# Altium schematic symbol library sd2snes.SchLib: 23 symbols
Pins are listed as number, name and electrical type; pins without a type are passive.

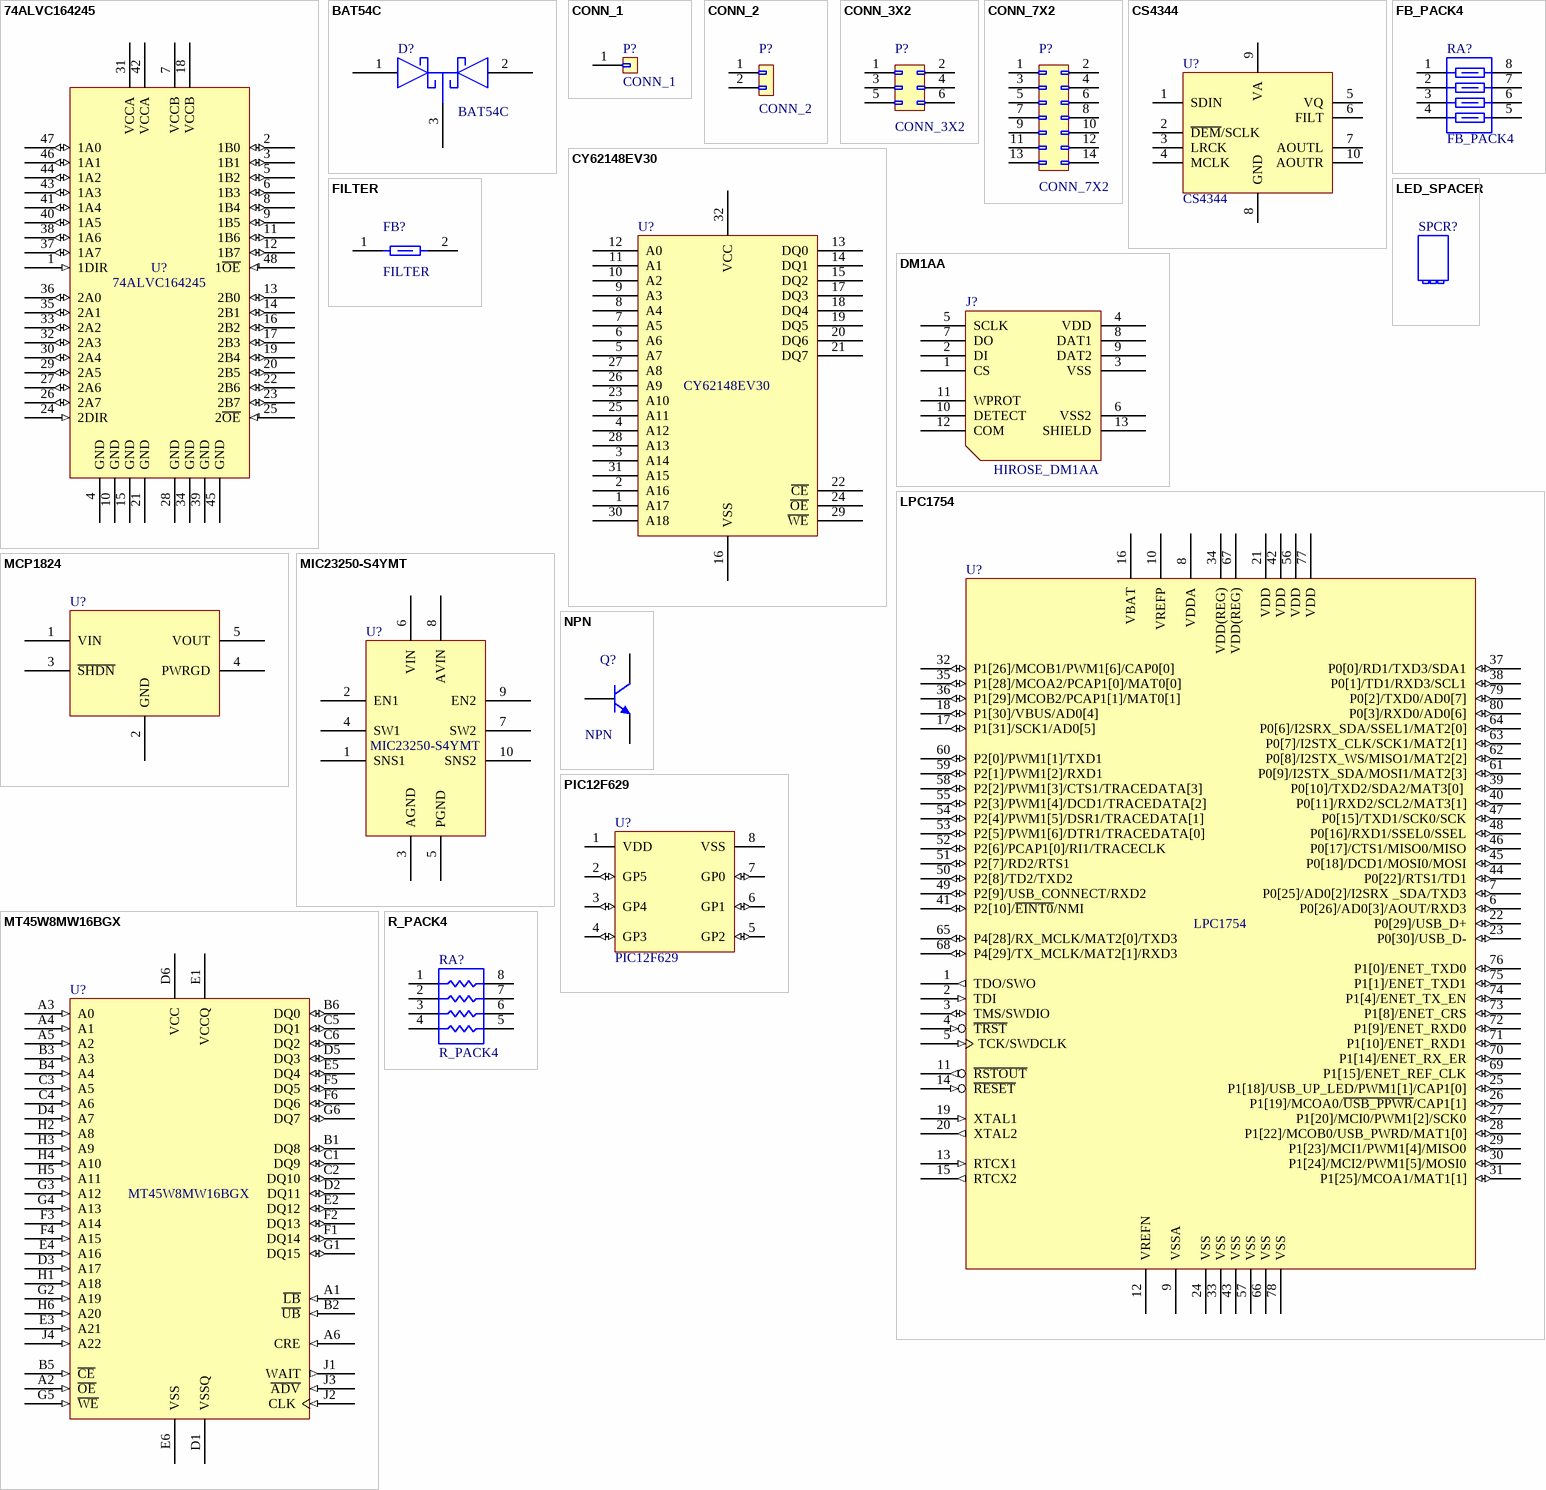
[diagram p0: symbols 74ALVC164245 to R_PACK4]

## 74ALVC164245
designator U?
footprint TSSOP50P810X120-48N (TSSOP, 48-Leads, Body 12.50x6.10mm, Pitch 0.50mm, IPC Medium Density)
pins: 1 1DIR (in), 2 1B0 (io), 3 1B1 (io), 4 GND (power), 5 1B2 (io), 6 1B3 (io), 7 VCCB (power), 8 1B4 (io), 9 1B5 (io), 10 GND (power), 11 1B6 (io), 12 1B7 (io), 13 2B0 (io), 14 2B1 (io), 15 GND (power), 16 2B2 (io), 17 2B3 (io), 18 VCCB (power), 19 2B4 (io), 20 2B5 (io), 21 GND (power), 22 2B6 (io), 23 2B7 (io), 24 2DIR (in), 25 2~{OE} (in), 26 2A7 (io), 27 2A6 (io), 28 GND (power), 29 2A5 (io), 30 2A4 (io), 31 VCCA (power), 32 2A3 (io), 33 2A2 (io), 34 GND (power), 35 2A1 (io), 36 2A0 (io), 37 1A7 (io), 38 1A6 (io), 39 GND (power), 40 1A5 (io), 41 1A4 (io), 42 VCCA (power), 43 1A3 (io), 44 1A2 (io), 45 GND (power), 46 1A1 (io), 47 1A0 (io), 48 1~{OE} (in)

## BAT54C
designator D?
pins: 1, 2, 3

## CONN_1
designator P?
pins: 1

## CONN_2
designator P?
pins: 1, 2

## CONN_3X2
designator P?
pins: 1, 2, 3, 4, 5, 6

## CONN_7X2
designator P?
pins: 1, 2, 3, 4, 5, 6, 7, 8, 9, 10, 11, 12, 13, 14

## CS4344
designator U?
pins: 1 SDIN, 2 ~{DEM}/SCLK, 3 LRCK, 4 MCLK, 5 VQ, 6 FILT, 7 AOUTL, 8 GND, 9 VA, 10 AOUTR

## CY62148EV30
designator U?
pins: 1 A17, 2 A16, 3 A14, 4 A12, 5 A7, 6 A6, 7 A5, 8 A4, 9 A3, 10 A2, 11 A1, 12 A0, 13 DQ0, 14 DQ1, 15 DQ2, 16 VSS, 17 DQ3, 18 DQ4, 19 DQ5, 20 DQ6, 21 DQ7, 22 ~{CE}, 23 A10, 24 ~{OE}, 25 A11, 26 A9, 27 A8, 28 A13, 29 ~{WE}, 30 A18, 31 A15, 32 VCC

## DM1AA
designator J?, comment HIROSE_DM1AA
pins: 1 CS, 2 DI, 3 VSS, 4 VDD, 5 SCLK, 6 VSS2, 7 DO, 8 DAT1, 9 DAT2, 10 DETECT, 11 WPROT, 12 COM, 13 SHIELD

## FB_PACK4
designator RA?
Four Ferrite Bead Array
footprint CAF-80P319X159-8N (Chip Array, Flat, 8-Leads, Pitch 0.80mm,  Body 3.20x1.60mm,  IPC Medium Density)
pins: 1, 2, 3, 4, 5, 6, 7, 8

## FILTER
designator FB?
footprint SM0805
pins: 1, 2

## LED_SPACER
designator SPCR?  (mechanical)
LED Spacer

## LPC1754
designator U?
pins: 1 TDO/SWO (out), 2 TDI (in), 3 TMS/SWDIO (io), 4 ~{TRST} (in), 5 TCK/SWDCLK (in), 6 P0[26]/AD0[3]/AOUT/RXD3 (io), 7 P0[25]/AD0[2]/I2SRX _SDA/TXD3 (io), 8 VDDA (power), 9 VSSA (power), 10 VREFP (power), 11 ~{RSTOUT} (out), 12 VREFN (power), 13 RTCX1 (in), 14 ~{RESET} (in), 15 RTCX2 (out), 16 VBAT (power), 17 P1[31]/SCK1/AD0[5] (io), 18 P1[30]/VBUS/AD0[4] (io), 19 XTAL1 (in), 20 XTAL2 (out), 21 VDD (power), 22 P0[29]/USB_D+ (io), 23 P0[30]/USB_D- (io), 24 VSS (power), 25 P1[18]/USB_UP_LED/PWM1[1]/CAP1[0] (io), 26 P1[19]/MCOA0/~{USB_PPWR}/CAP1[1] (io), 27 P1[20]/MCI0/PWM1[2]/SCK0 (io), 28 P1[22]/MCOB0/USB_PWRD/MAT1[0] (io), 29 P1[23]/MCI1/PWM1[4]/MISO0 (io), 30 P1[24]/MCI2/PWM1[5]/MOSI0 (io), 31 P1[25]/MCOA1/MAT1[1] (io), 32 P1[26]/MCOB1/PWM1[6]/CAP0[0] (io), 33 VSS (power), 34 VDD(REG) (power), 35 P1[28]/MCOA2/PCAP1[0]/MAT0[0] (io), 36 P1[29]/MCOB2/PCAP1[1]/MAT0[1] (io), 37 P0[0]/RD1/TXD3/SDA1 (io), 38 P0[1]/TD1/RXD3/SCL1 (io), 39 P0[10]/TXD2/SDA2/MAT3[0]  (io), 40 P0[11]/RXD2/SCL2/MAT3[1] (io), 41 P2[10]/~{EINT0}/NMI (io), 42 VDD (power), 43 VSS (power), 44 P0[22]/RTS1/TD1 (io), 45 P0[18]/DCD1/MOSI0/MOSI (io), 46 P0[17]/CTS1/MISO0/MISO (io), 47 P0[15]/TXD1/SCK0/SCK (io), 48 P0[16]/RXD1/SSEL0/SSEL (io), 49 P2[9]/USB_CONNECT/RXD2 (io), 50 P2[8]/TD2/TXD2 (io), 51 P2[7]/RD2/RTS1 (io), 52 P2[6]/PCAP1[0]/RI1/TRACECLK (io), 53 P2[5]/PWM1[6]/DTR1/TRACEDATA[0] (io), 54 P2[4]/PWM1[5]/DSR1/TRACEDATA[1] (io), 55 P2[3]/PWM1[4]/DCD1/TRACEDATA[2] (io), 56 VDD (power), 57 VSS (power), 58 P2[2]/PWM1[3]/CTS1/TRACEDATA[3] (io), 59 P2[1]/PWM1[2]/RXD1 (io), 60 P2[0]/PWM1[1]/TXD1 (io), 61 P0[9]/I2STX_SDA/MOSI1/MAT2[3] (io), 62 P0[8]/I2STX_WS/MISO1/MAT2[2] (io), 63 P0[7]/I2STX_CLK/SCK1/MAT2[1] (io), 64 P0[6]/I2SRX_SDA/SSEL1/MAT2[0] (io), 65 P4[28]/RX_MCLK/MAT2[0]/TXD3 (io), 66 VSS (power), 67 VDD(REG) (power), 68 P4[29]/TX_MCLK/MAT2[1]/RXD3 (io), 69 P1[15]/ENET_REF_CLK (io), 70 P1[14]/ENET_RX_ER (io), 71 P1[10]/ENET_RXD1 (io), 72 P1[9]/ENET_RXD0 (io), 73 P1[8]/ENET_CRS (io), 74 P1[4]/ENET_TX_EN (io), 75 P1[1]/ENET_TXD1 (io), 76 P1[0]/ENET_TXD0 (io), 77 VDD (power), 78 VSS (power), 79 P0[2]/TXD0/AD0[7] (io), 80 P0[3]/RXD0/AD0[6] (io)

## MCP1824
designator U?  (value not drawn)
pins: 1 VIN, 2 GND, 3 ~{SHDN}, 4 PWRGD, 5 VOUT

## MIC23250-S4YMT
designator U?
pins: 1 SNS1, 2 EN1, 3 AGND, 4 SW1, 5 PGND, 6 VIN, 7 SW2, 8 AVIN, 9 EN2, 10 SNS2

## MT45W8MW16BGX
designator U?
pins: A1 ~{LB} (in), A2 ~{OE} (in), A3 A0 (in), A4 A1 (in), A5 A2 (in), A6 CRE (in), B1 DQ8 (io), B2 ~{UB} (in), B3 A3 (in), B4 A4 (in), B5 ~{CE} (in), B6 DQ0 (io), C1 DQ9 (io), C2 DQ10 (io), C3 A5 (in), C4 A6 (in), C5 DQ1 (io), C6 DQ2 (io), D1 VSSQ (power), D2 DQ11 (io), D3 A17 (in), D4 A7 (in), D5 DQ3 (io), D6 VCC (power), E1 VCCQ (power), E2 DQ12 (io), E3 A21 (in), E4 A16 (in), E5 DQ4 (io), E6 VSS (power), F1 DQ14 (io), F2 DQ13 (io), F3 A14 (in), F4 A15 (in), F5 DQ5 (io), F6 DQ6 (io), G1 DQ15 (io), G2 A19 (in), G3 A12 (in), G4 A13 (in), G5 ~{WE} (in), G6 DQ7 (io), H1 A18 (in), H2 A8 (in), H3 A9 (in), H4 A10 (in), H5 A11 (in), H6 A20 (in), J1 WAIT (out), J2 CLK (in), J3 ~{ADV} (in), J4 A22 (in)

## NPN
designator Q?
NPN Transistor
footprint SOT95P237X111-3N (SOT23, 3-Leads, Body 2.92x2.37mm, Pitch 0.95mm, IPC Medium Density)
pins: 1 B, 2 E, 3 C

## PIC12F629
designator U?
pins: 1 VDD (power), 2 GP5 (io), 3 GP4 (io), 4 GP3 (io), 5 GP2 (io), 6 GP1 (io), 7 GP0 (io), 8 VSS (power)

## R_PACK4
designator RA?
Four Resistor Array
footprint CAC-80P319X159-8N (Chip Array, ConvexS, 8-Leads, Pitch 0.80mm,  Body 3.20x1.60mm,  IPC Medium Density)
pins: 1, 2, 3, 4, 5, 6, 7, 8

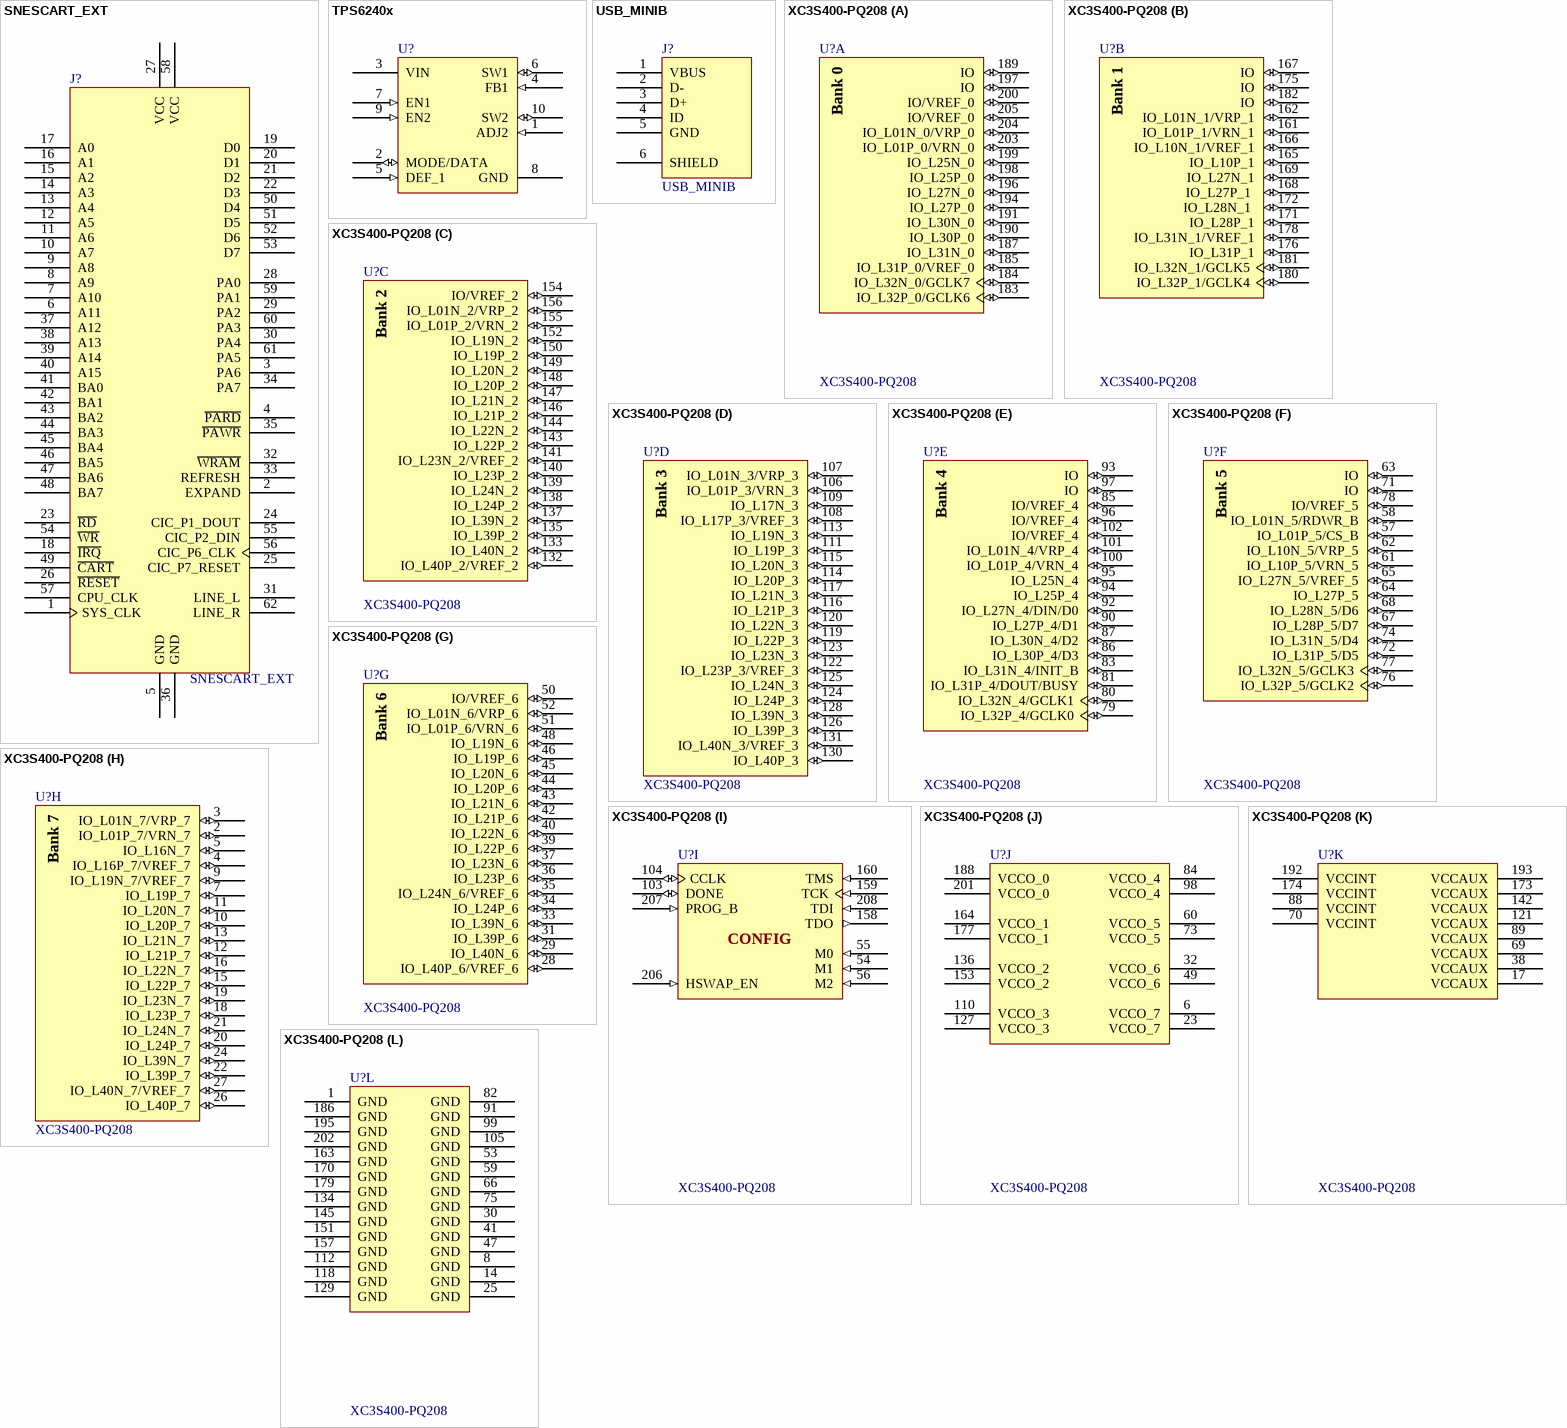
[diagram p1: symbols SNESCART_EXT to XC3S400-PQ208]

## SNESCART_EXT
designator J?
footprint SNESCART_EDGE_CONN (SNES Cartridge Edge Connector)
pins: 1 SYS_CLK, 2 EXPAND, 3 PA6, 4 ~{PARD}, 5 GND, 6 A11, 7 A10, 8 A9, 9 A8, 10 A7, 11 A6, 12 A5, 13 A4, 14 A3, 15 A2, 16 A1, 17 A0, 18 ~{IRQ}, 19 D0, 20 D1, 21 D2, 22 D3, 23 ~{RD}, 24 CIC_P1_DOUT, 25 CIC_P7_RESET, 26 ~{RESET}, 27 VCC, 28 PA0, 29 PA2, 30 PA4, 31 LINE_L, 32 ~{WRAM}, 33 REFRESH, 34 PA7, 35 ~{PAWR}, 36 GND, 37 A12, 38 A13, 39 A14, 40 A15, 41 BA0, 42 BA1, 43 BA2, 44 BA3, 45 BA4, 46 BA5, 47 BA6, 48 BA7, 49 ~{CART}, 50 D4, 51 D5, 52 D6, 53 D7, 54 ~{WR}, 55 CIC_P2_DIN, 56 CIC_P6_CLK, 57 CPU_CLK, 58 VCC, 59 PA1, 60 PA3, 61 PA5, 62 LINE_R

## TPS6240x
designator U?  (value not drawn)
TPS6240x, 2.25-MHz 400-mA and 600-mA Dual Step-Down Converter
pins: 1 ADJ2 (in), 2 MODE/DATA (io), 3 VIN (power), 4 FB1 (in), 5 DEF_1 (in), 6 SW1 (io), 7 EN1 (in), 8 GND (power), 9 EN2 (in), 10 SW2 (io)

## USB_MINIB
designator J?
pins: 1 VBUS, 2 D-, 3 D+, 4 ID, 5 GND, 6 SHIELD

## XC3S400-PQ208
designator U?
part A pins: 183 IO_L32P_0/GCLK6 (io), 184 IO_L32N_0/GCLK7 (io), 185 IO_L31P_0/VREF_0 (io), 187 IO_L31N_0 (io), 189 IO (io), 190 IO_L30P_0 (io), 191 IO_L30N_0 (io), 194 IO_L27P_0 (io), 196 IO_L27N_0 (io), 197 IO (io), 198 IO_L25P_0 (io), 199 IO_L25N_0 (io), 200 IO/VREF_0 (io), 203 IO_L01P_0/VRN_0 (io), 204 IO_L01N_0/VRP_0 (io), 205 IO/VREF_0 (io)
part B pins: 161 IO_L01P_1/VRN_1 (io), 162 IO_L01N_1/VRP_1 (io), 165 IO_L10P_1 (io), 166 IO_L10N_1/VREF_1 (io), 167 IO (io), 168 IO_L27P_1  (io), 169 IO_L27N_1 (io), 171 IO_L28P_1 (io), 172 IO_L28N_1  (io), 175 IO (io), 176 IO_L31P_1 (io), 178 IO_L31N_1/VREF_1 (io), 180 IO_L32P_1/GCLK4 (io), 181 IO_L32N_1/GCLK5 (io), 182 IO (io)
part C pins: 132 IO_L40P_2/VREF_2 (io), 133 IO_L40N_2 (io), 135 IO_L39P_2 (io), 137 IO_L39N_2 (io), 138 IO_L24P_2 (io), 139 IO_L24N_2 (io), 140 IO_L23P_2 (io), 141 IO_L23N_2/VREF_2 (io), 143 IO_L22P_2 (io), 144 IO_L22N_2 (io), 146 IO_L21P_2 (io), 147 IO_L21N_2 (io), 148 IO_L20P_2 (io), 149 IO_L20N_2 (io), 150 IO_L19P_2 (io), 152 IO_L19N_2 (io), 154 IO/VREF_2 (io), 155 IO_L01P_2/VRN_2 (io), 156 IO_L01N_2/VRP_2 (io)
part D pins: 106 IO_L01P_3/VRN_3 (io), 107 IO_L01N_3/VRP_3 (io), 108 IO_L17P_3/VREF_3 (io), 109 IO_L17N_3 (io), 111 IO_L19P_3 (io), 113 IO_L19N_3 (io), 114 IO_L20P_3 (io), 115 IO_L20N_3 (io), 116 IO_L21P_3 (io), 117 IO_L21N_3 (io), 119 IO_L22P_3 (io), 120 IO_L22N_3 (io), 122 IO_L23P_3/VREF_3 (io), 123 IO_L23N_3 (io), 124 IO_L24P_3 (io), 125 IO_L24N_3 (io), 126 IO_L39P_3 (io), 128 IO_L39N_3 (io), 130 IO_L40P_3 (io), 131 IO_L40N_3/VREF_3 (io)
part E pins: 79 IO_L32P_4/GCLK0 (io), 80 IO_L32N_4/GCLK1 (io), 81 IO_L31P_4/DOUT/BUSY (io), 83 IO_L31N_4/INIT_B (io), 85 IO/VREF_4 (io), 86 IO_L30P_4/D3 (io), 87 IO_L30N_4/D2 (io), 90 IO_L27P_4/D1 (io), 92 IO_L27N_4/DIN/D0 (io), 93 IO (io), 94 IO_L25P_4 (io), 95 IO_L25N_4 (io), 96 IO/VREF_4 (io), 97 IO (io), 100 IO_L01P_4/VRN_4 (io), 101 IO_L01N_4/VRP_4 (io), 102 IO/VREF_4 (io)
part F pins: 57 IO_L01P_5/CS_B (io), 58 IO_L01N_5/RDWR_B (io), 61 IO_L10P_5/VRN_5 (io), 62 IO_L10N_5/VRP_5 (io), 63 IO (io), 64 IO_L27P_5 (io), 65 IO_L27N_5/VREF_5 (io), 67 IO_L28P_5/D7 (io), 68 IO_L28N_5/D6 (io), 71 IO (io), 72 IO_L31P_5/D5 (io), 74 IO_L31N_5/D4 (io), 76 IO_L32P_5/GCLK2 (io), 77 IO_L32N_5/GCLK3 (io), 78 IO/VREF_5 (io)
part G pins: 28 IO_L40P_6/VREF_6 (io), 29 IO_L40N_6 (io), 31 IO_L39P_6 (io), 33 IO_L39N_6 (io), 34 IO_L24P_6 (io), 35 IO_L24N_6/VREF_6 (io), 36 IO_L23P_6 (io), 37 IO_L23N_6 (io), 39 IO_L22P_6 (io), 40 IO_L22N_6 (io), 42 IO_L21P_6 (io), 43 IO_L21N_6 (io), 44 IO_L20P_6 (io), 45 IO_L20N_6 (io), 46 IO_L19P_6 (io), 48 IO_L19N_6 (io), 50 IO/VREF_6 (io), 51 IO_L01P_6/VRN_6 (io), 52 IO_L01N_6/VRP_6 (io)
part H pins: 2 IO_L01P_7/VRN_7 (io), 3 IO_L01N_7/VRP_7 (io), 4 IO_L16P_7/VREF_7 (io), 5 IO_L16N_7 (io), 7 IO_L19P_7 (io), 9 IO_L19N_7/VREF_7 (io), 10 IO_L20P_7 (io), 11 IO_L20N_7 (io), 12 IO_L21P_7 (io), 13 IO_L21N_7 (io), 15 IO_L22P_7 (io), 16 IO_L22N_7 (io), 18 IO_L23P_7 (io), 19 IO_L23N_7 (io), 20 IO_L24P_7 (io), 21 IO_L24N_7 (io), 22 IO_L39P_7 (io), 24 IO_L39N_7 (io), 26 IO_L40P_7 (io), 27 IO_L40N_7/VREF_7 (io)
part I pins: 54 M1 (in), 55 M0 (in), 56 M2 (in), 103 DONE (io), 104 CCLK (io), 158 TDO (out), 159 TCK (in), 160 TMS (in), 206 HSWAP_EN (in), 207 PROG_B (in), 208 TDI (in)
part J pins: 6 VCCO_7 (power), 23 VCCO_7 (power), 32 VCCO_6 (power), 49 VCCO_6 (power), 60 VCCO_5 (power), 73 VCCO_5 (power), 84 VCCO_4 (power), 98 VCCO_4 (power), 110 VCCO_3 (power), 127 VCCO_3 (power), 136 VCCO_2 (power), 153 VCCO_2 (power), 164 VCCO_1 (power), 177 VCCO_1 (power), 188 VCCO_0 (power), 201 VCCO_0 (power)
part K pins: 17 VCCAUX (power), 38 VCCAUX (power), 69 VCCAUX (power), 70 VCCINT (power), 88 VCCINT (power), 89 VCCAUX (power), 121 VCCAUX (power), 142 VCCAUX (power), 173 VCCAUX (power), 174 VCCINT (power), 192 VCCINT (power), 193 VCCAUX (power)
part L pins: 1 GND (power), 8 GND (power), 14 GND (power), 25 GND (power), 30 GND (power), 41 GND (power), 47 GND (power), 53 GND (power), 59 GND (power), 66 GND (power), 75 GND (power), 82 GND (power), 91 GND (power), 99 GND (power), 105 GND (power), 112 GND (power), 118 GND (power), 129 GND (power), 134 GND (power), 145 GND (power), 151 GND (power), 157 GND (power), 163 GND (power), 170 GND (power), 179 GND (power), 186 GND (power), 195 GND (power), 202 GND (power)
part A text: Bank 0
part B text: Bank 1
part C text: Bank 2
part D text: Bank 3
part E text: Bank 4
part F text: Bank 5
part G text: Bank 6
part H text: Bank 7
part I text: CONFIG